# Altium schematic symbol library joystick.SchLib: 2 symbols
Pins are listed as number, name and electrical type; pins without a type are passive.

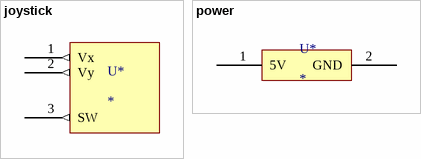
[diagram p0: symbols joystick to power]

## joystick
designator U*
pins: 1 Vx (out), 2 Vy (out), 3 SW (out)

## power
designator U*
pins: 1 5V (power), 2 GND (power)